# Altium schematic symbol library PTS645SK43SMTR92LFS.SchLib: 1 symbol
Pins are listed as number, name and electrical type; pins without a type are passive.

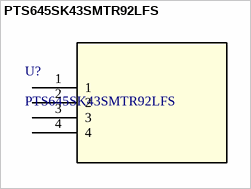
[diagram p0: symbol PTS645SK43SMTR92LFS]

## PTS645SK43SMTR92LFS
designator U?
Description; Manufacturer_Name: C&K Components; Copyright: Copyright (C) 2025 Ultra Librarian. All rights reserved.; Manufacturer_Part_Number: PTS645SK43SMTR92LFS; RefDes: RefDes; Type: Type
footprint SWITCH_45SK43SMTR92LFS
pins: 1, 2, 3, 4